# EAGLE library part LTP-747 (library display-matrix)
LTP-747 LED matrix display
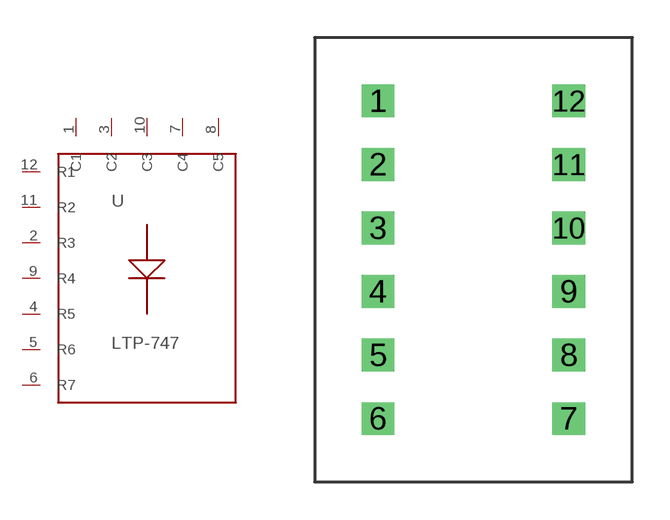
[diagram p2: symbol with the pads of LTP747; footprint LTP747]

Designator prefix -

## LTP-747  [LTP747]
1  C1  in
2  R3  out
3  C2  in
4  R5  out
5  R6  out
6  R7  out
7  C4  in
8  C5  in
9  R4  out
10  C3  in
11  R2  out
12  R1  out

## Footprint LTP747 (pad centres in mm)
LTP-747
drill 0.8 square: 1 -3.81,6.35; 2 -3.81,3.81; 3 -3.81,1.27; 4 -3.81,-1.27; 5 -3.81,-3.81; 6 -3.81,-6.35; 7 3.81,-6.35; 8 3.81,-3.81; 9 3.81,-1.27; 10 3.81,1.27; 11 3.81,3.81; 12 3.81,6.35